# EAGLE library part 26LS31 (library A-14732-40023)
Quadruple Differential Line Driver
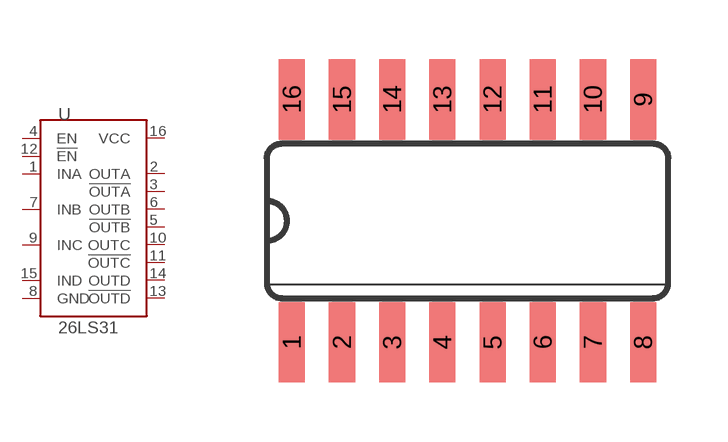
[diagram p9: symbol with the pads of SO16; footprint SO16]

Designator prefix U

## 26LS31  [SO16]
1  INA  in
2  OUTA
3  !OUTA
4  EN
5  !OUTB
6  OUTB
7  INB  in
8  GND  pwr
9  INC  in
10  OUTC
11  !OUTC
12  !EN
13  !OUTD
14  OUTD
15  IND  in
16  VCC  pwr

## Footprint SO16 (pad centres in mm)
Small Outline package 16 pin 150 mil
smd 0.66 x 2.032: 1 -4.445,-3.073; 2 -3.175,-3.073; 3 -1.905,-3.073; 4 -0.635,-3.073; 5 0.635,-3.073; 6 1.905,-3.073; 7 3.175,-3.073; 8 4.445,-3.073; 9 4.445,3.073; 10 3.175,3.073; 11 1.905,3.073; 12 0.635,3.073; 13 -0.635,3.073; 14 -1.905,3.073; 15 -3.175,3.073; 16 -4.445,3.073